# Altium schematic symbol library Sensor_Current.SchLib: 261 symbols (part 3 of 3)
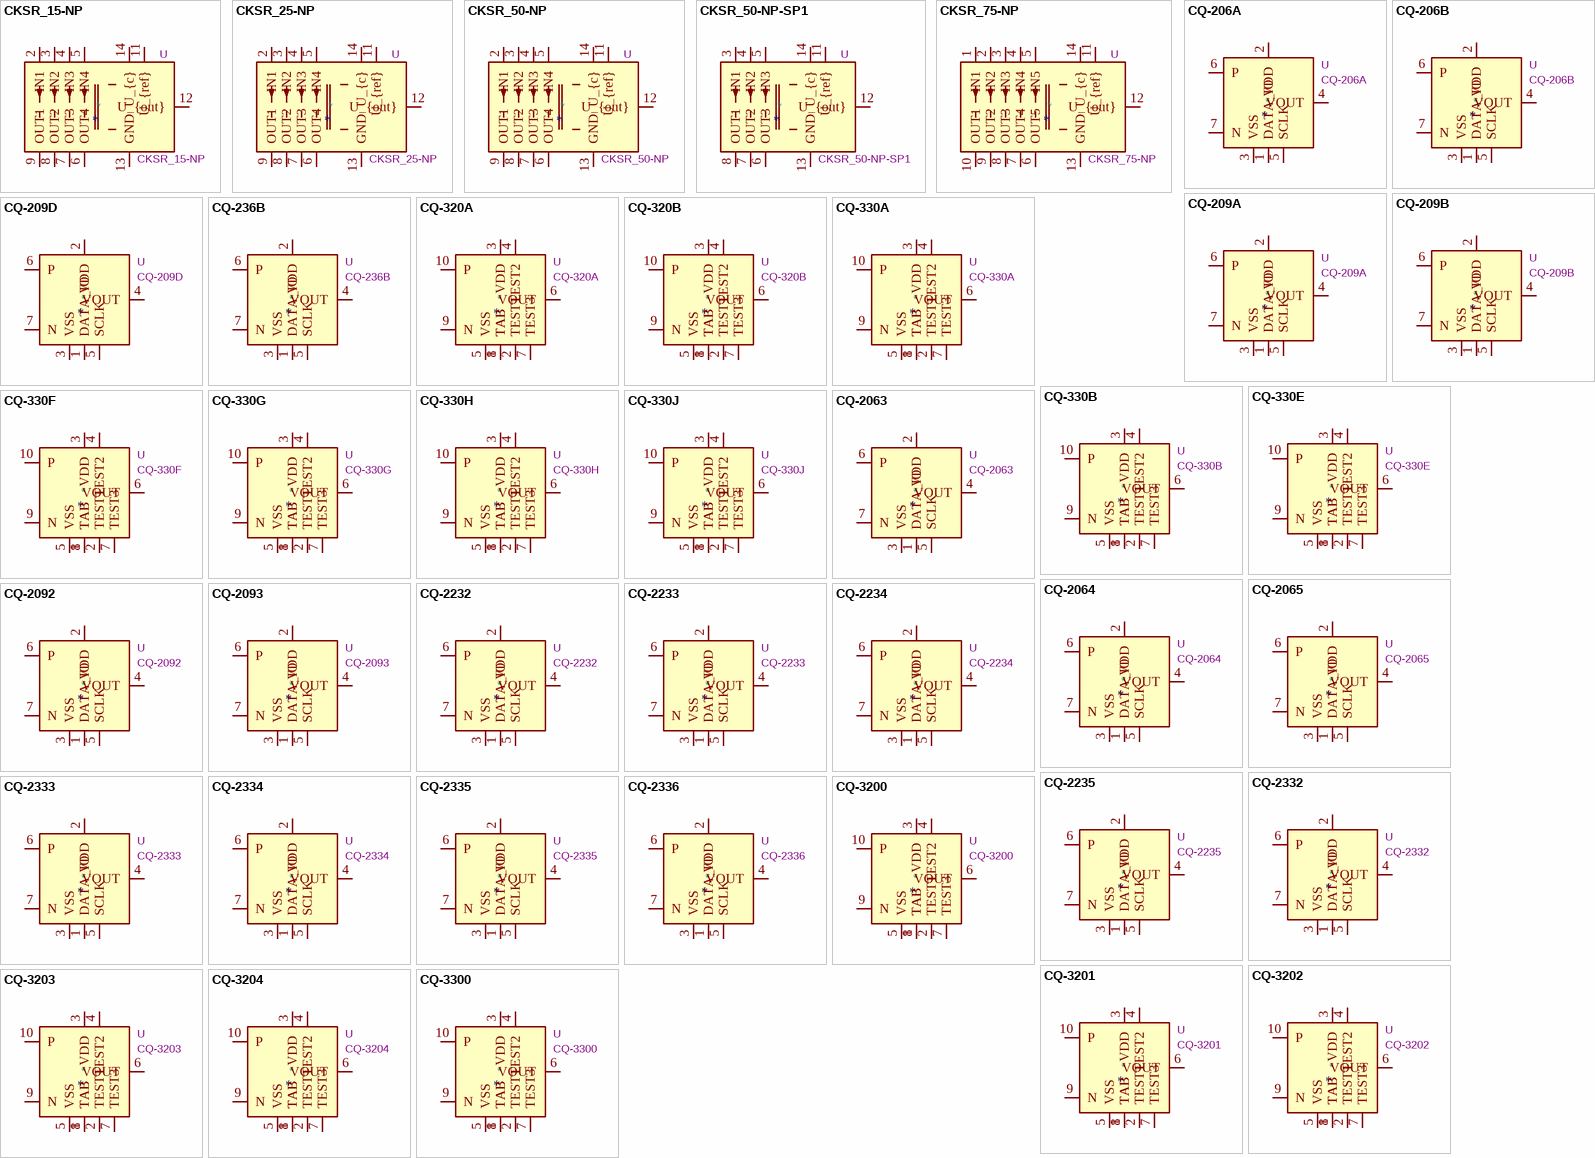
[diagram p8: symbols CKSR_15-NP to CQ-3300]

## CQ-330H
designator *  value CQ-330H  Reference: U
High-Speed Response Coreless Current Sensor, Bidirectional, -42.0A to +42.0A, 50mV/A, VSOP-24; ki_keywords: hall effect current sensor; ki_fp_filters: AKM*CQ*VSOP*5.6x7.9mm*P0.65mm*; Footprint: Sensor_Current:AKM_CQ_VSOP-24_5.6x7.9mm_P0.65mm; Datasheet: http://www.akm.com/akm/en/file/datasheet/CQ-330H.pdf; Description_: High-Speed Response Coreless Current Sensor, Bidirectional, -42.0A to +42.0A, 50mV/A, VSOP-24
pins: 1 TAB, 2 TEST1, 3 VDD, 4 TEST2, 5 VSS, 6 VOUT, 7 TEST3, 8 TAB, 9 N, 10 P

## CQ-330J
designator *  value CQ-330J  Reference: U
High-Speed Response Coreless Current Sensor, Unidirectional, -2.0A to +42.0A, 82.7mV/A, VSOP-24; ki_keywords: hall effect current sensor; ki_fp_filters: AKM*CQ*VSOP*5.6x7.9mm*P0.65mm*; Footprint: Sensor_Current:AKM_CQ_VSOP-24_5.6x7.9mm_P0.65mm; Datasheet: http://www.akm.com/akm/en/file/datasheet/CQ-330J.pdf; Description_: High-Speed Response Coreless Current Sensor, Unidirectional, -2.0A to +42.0A, 82.7mV/A, VSOP-24
pins: 1 TAB, 2 TEST1, 3 VDD, 4 TEST2, 5 VSS, 6 VOUT, 7 TEST3, 8 TAB, 9 N, 10 P

## CQ-2063
designator *  value CQ-2063  Reference: U
High-Speed Small-Sized Current Sensor, Bidirectional, -35A to +35A, 60mV/A, CQ-7; ki_keywords: hall effect current sensor; ki_fp_filters: AKM*CQ*; Footprint: Sensor_Current:AKM_CQ_7; Datasheet: http://www.akm.com/akm/en/file/datasheet/CQ-2063.pdf; Description_: High-Speed Small-Sized Current Sensor, Bidirectional, -35A to +35A, 60mV/A, CQ-7
pins: 1 DATA_IO, 2 VDD, 3 VSS, 4 VOUT, 5 SCLK, 6 P, 7 N

## CQ-2064
designator *  value CQ-2064  Reference: U
High-Speed Small-Sized Current Sensor, Bidirectional, -54A to +54A, 40mV/A, CQ-7; ki_keywords: hall effect current sensor; ki_fp_filters: AKM*CQ*; Footprint: Sensor_Current:AKM_CQ_7; Datasheet: http://www.akm.com/akm/en/file/datasheet/CQ-2064.pdf; Description_: High-Speed Small-Sized Current Sensor, Bidirectional, -54A to +54A, 40mV/A, CQ-7
pins: 1 DATA_IO, 2 VDD, 3 VSS, 4 VOUT, 5 SCLK, 6 P, 7 N

## CQ-2065
designator *  value CQ-2065  Reference: U
High-Speed Small-Sized Current Sensor, Bidirectional, -85A to +85A, 25mV/A, CQ-7; ki_keywords: hall effect current sensor; ki_fp_filters: AKM*CQ*; Footprint: Sensor_Current:AKM_CQ_7; Datasheet: http://www.akm.com/akm/en/file/datasheet/CQ-2065.pdf; Description_: High-Speed Small-Sized Current Sensor, Bidirectional, -85A to +85A, 25mV/A, CQ-7
pins: 1 DATA_IO, 2 VDD, 3 VSS, 4 VOUT, 5 SCLK, 6 P, 7 N

## CQ-2092
designator *  value CQ-2092  Reference: U
High-Speed Small-Sized Current Sensor, Bidirectional, -21A to +21A, 100mV/A, CQ-7S; ki_keywords: hall effect current sensor; ki_fp_filters: AKM*CQ*S*; Footprint: Sensor_Current:AKM_CQ_7S; Datasheet: http://www.akm.com/akm/en/file/datasheet/CQ-2092.pdf; Description_: High-Speed Small-Sized Current Sensor, Bidirectional, -21A to +21A, 100mV/A, CQ-7S
pins: 1 DATA_IO, 2 VDD, 3 VSS, 4 VOUT, 5 SCLK, 6 P, 7 N

## CQ-2093
designator *  value CQ-2093  Reference: U
High-Speed Small-Sized Current Sensor, Bidirectional, -35A to +35A, 60mV/A, CQ-7S; ki_keywords: hall effect current sensor; ki_fp_filters: AKM*CQ*S*; Footprint: Sensor_Current:AKM_CQ_7S; Datasheet: http://www.akm.com/akm/en/file/datasheet/CQ-2093.pdf; Description_: High-Speed Small-Sized Current Sensor, Bidirectional, -35A to +35A, 60mV/A, CQ-7S
pins: 1 DATA_IO, 2 VDD, 3 VSS, 4 VOUT, 5 SCLK, 6 P, 7 N

## CQ-2232
designator *  value CQ-2232  Reference: U
High-Speed Small Current Sensor, Bidirectional, -21A to +21A, 62.5mV/A, CQ-7; ki_keywords: hall effect current sensor; ki_fp_filters: AKM*CQ*; Footprint: Sensor_Current:AKM_CQ_7; Datasheet: http://www.akm.com/akm/en/file/datasheet/CQ-2232.pdf; Description_: High-Speed Small Current Sensor, Bidirectional, -21A to +21A, 62.5mV/A, CQ-7
pins: 1 DATA_IO, 2 VDD, 3 VSS, 4 VOUT, 5 SCLK, 6 P, 7 N

## CQ-2233
designator *  value CQ-2233  Reference: U
High-Speed Small Current Sensor, Bidirectional, -35A to +35A, 37.5mV/A, CQ-7; ki_keywords: hall effect current sensor; ki_fp_filters: AKM*CQ*; Footprint: Sensor_Current:AKM_CQ_7; Datasheet: http://www.akm.com/akm/en/file/datasheet/CQ-2233.pdf; Description_: High-Speed Small Current Sensor, Bidirectional, -35A to +35A, 37.5mV/A, CQ-7
pins: 1 DATA_IO, 2 VDD, 3 VSS, 4 VOUT, 5 SCLK, 6 P, 7 N

## CQ-2234
designator *  value CQ-2234  Reference: U
High-Speed Small Current Sensor, Bidirectional, -54A to +54A, 24.5mV/A, CQ-7; ki_keywords: hall effect current sensor; ki_fp_filters: AKM*CQ*; Footprint: Sensor_Current:AKM_CQ_7; Datasheet: http://www.akm.com/akm/en/file/datasheet/CQ-2234.pdf; Description_: High-Speed Small Current Sensor, Bidirectional, -54A to +54A, 24.5mV/A, CQ-7
pins: 1 DATA_IO, 2 VDD, 3 VSS, 4 VOUT, 5 SCLK, 6 P, 7 N

## CQ-2235
designator *  value CQ-2235  Reference: U
High-Speed Small Current Sensor, Bidirectional, -85A to +85A, 15.5mV/A, CQ-7; ki_keywords: hall effect current sensor; ki_fp_filters: AKM*CQ*; Footprint: Sensor_Current:AKM_CQ_7; Datasheet: http://www.akm.com/akm/en/file/datasheet/CQ-2235.pdf; Description_: High-Speed Small Current Sensor, Bidirectional, -85A to +85A, 15.5mV/A, CQ-7
pins: 1 DATA_IO, 2 VDD, 3 VSS, 4 VOUT, 5 SCLK, 6 P, 7 N

## CQ-2332
designator *  value CQ-2332  Reference: U
High-Speed Small Current Sensor, Bidirectional, -21A to +21A, 100mV/A, CQ-7; ki_keywords: hall effect current sensor; ki_fp_filters: AKM*CQ*; Footprint: Sensor_Current:AKM_CQ_7; Datasheet: http://www.akm.com/akm/en/file/datasheet/CQ-2332.pdf; Description_: High-Speed Small Current Sensor, Bidirectional, -21A to +21A, 100mV/A, CQ-7
pins: 1 DATA_IO, 2 VDD, 3 VSS, 4 VOUT, 5 SCLK, 6 P, 7 N

## CQ-2333
designator *  value CQ-2333  Reference: U
High-Speed Small Current Sensor, Bidirectional, -35A to +35A, 60mV/A, CQ-7; ki_keywords: hall effect current sensor; ki_fp_filters: AKM*CQ*; Footprint: Sensor_Current:AKM_CQ_7; Datasheet: http://www.akm.com/akm/en/file/datasheet/CQ-2333.pdf; Description_: High-Speed Small Current Sensor, Bidirectional, -35A to +35A, 60mV/A, CQ-7
pins: 1 DATA_IO, 2 VDD, 3 VSS, 4 VOUT, 5 SCLK, 6 P, 7 N

## CQ-2334
designator *  value CQ-2334  Reference: U
High-Speed Small Current Sensor, Bidirectional, -54A to +54A, 40mV/A, CQ-7; ki_keywords: hall effect current sensor; ki_fp_filters: AKM*CQ*; Footprint: Sensor_Current:AKM_CQ_7; Datasheet: http://www.akm.com/akm/en/file/datasheet/CQ-2334.pdf; Description_: High-Speed Small Current Sensor, Bidirectional, -54A to +54A, 40mV/A, CQ-7
pins: 1 DATA_IO, 2 VDD, 3 VSS, 4 VOUT, 5 SCLK, 6 P, 7 N

## CQ-2335
designator *  value CQ-2335  Reference: U
High-Speed Small Current Sensor, Bidirectional, -85A to +85A, 25mV/A, CQ-7; ki_keywords: hall effect current sensor; ki_fp_filters: AKM*CQ*; Footprint: Sensor_Current:AKM_CQ_7; Datasheet: http://www.akm.com/akm/en/file/datasheet/CQ-2335.pdf; Description_: High-Speed Small Current Sensor, Bidirectional, -85A to +85A, 25mV/A, CQ-7
pins: 1 DATA_IO, 2 VDD, 3 VSS, 4 VOUT, 5 SCLK, 6 P, 7 N

## CQ-2336
designator *  value CQ-2336  Reference: U
High-Speed Small Current Sensor, Bidirectional, -170A to +170A, 12mV/A, CQ-7; ki_keywords: hall effect current sensor; ki_fp_filters: AKM*CQ*; Footprint: Sensor_Current:AKM_CQ_7; Datasheet: http://www.akm.com/akm/en/file/datasheet/CQ-2335.pdf; Description_: High-Speed Small Current Sensor, Bidirectional, -170A to +170A, 12mV/A, CQ-7
pins: 1 DATA_IO, 2 VDD, 3 VSS, 4 VOUT, 5 SCLK, 6 P, 7 N

## CQ-3200
designator *  value CQ-3200  Reference: U
High-Speed Response Coreless Current Sensor, Bidirectional, -8.5A to +8.5A, 155mV/A, VSOP-24; ki_keywords: hall effect current sensor; ki_fp_filters: AKM*CQ*VSOP*5.6x7.9mm*P0.65mm*; Footprint: Sensor_Current:AKM_CQ_VSOP-24_5.6x7.9mm_P0.65mm; Datasheet: http://www.akm.com/akm/en/file/datasheet/CQ-3200.pdf; Description_: High-Speed Response Coreless Current Sensor, Bidirectional, -8.5A to +8.5A, 155mV/A, VSOP-24
pins: 1 TAB, 2 TEST1, 3 VDD, 4 TEST2, 5 VSS, 6 VOUT, 7 TEST3, 8 TAB, 9 N, 10 P

## CQ-3201
designator *  value CQ-3201  Reference: U
High-Speed Response Coreless Current Sensor, Bidirectional, -10.1A to +10.1A, 130mV/A, VSOP-24; ki_keywords: hall effect current sensor; ki_fp_filters: AKM*CQ*VSOP*5.6x7.9mm*P0.65mm*; Footprint: Sensor_Current:AKM_CQ_VSOP-24_5.6x7.9mm_P0.65mm; Datasheet: http://www.akm.com/akm/en/file/datasheet/CQ-3201.pdf; Description_: High-Speed Response Coreless Current Sensor, Bidirectional, -10.1A to +10.1A, 130mV/A, VSOP-24
pins: 1 TAB, 2 TEST1, 3 VDD, 4 TEST2, 5 VSS, 6 VOUT, 7 TEST3, 8 TAB, 9 N, 10 P

## CQ-3202
designator *  value CQ-3202  Reference: U
High-Speed Response Coreless Current Sensor, Bidirectional, -21.1A to +21.1A, 62.5mV/A, VSOP-24; ki_keywords: hall effect current sensor; ki_fp_filters: AKM*CQ*VSOP*5.6x7.9mm*P0.65mm*; Footprint: Sensor_Current:AKM_CQ_VSOP-24_5.6x7.9mm_P0.65mm; Datasheet: http://www.akm.com/akm/en/file/datasheet/CQ-3202.pdf; Description_: High-Speed Response Coreless Current Sensor, Bidirectional, -21.1A to +21.1A, 62.5mV/A, VSOP-24
pins: 1 TAB, 2 TEST1, 3 VDD, 4 TEST2, 5 VSS, 6 VOUT, 7 TEST3, 8 TAB, 9 N, 10 P

## CQ-3203
designator *  value CQ-3203  Reference: U
High-Speed Response Coreless Current Sensor, Bidirectional, -35.7A to +35.7A, 37mV/A, VSOP-24; ki_keywords: hall effect current sensor; ki_fp_filters: AKM*CQ*VSOP*5.6x7.9mm*P0.65mm*; Footprint: Sensor_Current:AKM_CQ_VSOP-24_5.6x7.9mm_P0.65mm; Datasheet: http://www.akm.com/akm/en/file/datasheet/CQ-3203.pdf; Description_: High-Speed Response Coreless Current Sensor, Bidirectional, -35.7A to +35.7A, 37mV/A, VSOP-24
pins: 1 TAB, 2 TEST1, 3 VDD, 4 TEST2, 5 VSS, 6 VOUT, 7 TEST3, 8 TAB, 9 N, 10 P

## CQ-3204
designator *  value CQ-3204  Reference: U
High-Speed Response Coreless Current Sensor, Bidirectional, -44.0A to +44.0A, 30mV/A, VSOP-24; ki_keywords: hall effect current sensor; ki_fp_filters: AKM*CQ*VSOP*5.6x7.9mm*P0.65mm*; Footprint: Sensor_Current:AKM_CQ_VSOP-24_5.6x7.9mm_P0.65mm; Datasheet: http://www.akm.com/akm/en/file/datasheet/CQ-3204.pdf; Description_: High-Speed Response Coreless Current Sensor, Bidirectional, -44.0A to +44.0A, 30mV/A, VSOP-24
pins: 1 TAB, 2 TEST1, 3 VDD, 4 TEST2, 5 VSS, 6 VOUT, 7 TEST3, 8 TAB, 9 N, 10 P

## CQ-3300
designator *  value CQ-3300  Reference: U
High-Speed Response Coreless Current Sensor, Bidirectional, -6.4A to +6.4A, 325mV/A, VSOP-24; ki_keywords: hall effect current sensor; ki_fp_filters: AKM*CQ*VSOP*5.6x7.9mm*P0.65mm*; Footprint: Sensor_Current:AKM_CQ_VSOP-24_5.6x7.9mm_P0.65mm; Datasheet: http://www.akm.com/akm/en/file/datasheet/CQ-3300.pdf; Description_: High-Speed Response Coreless Current Sensor, Bidirectional, -6.4A to +6.4A, 325mV/A, VSOP-24
pins: 1 TAB, 2 TEST1, 3 VDD, 4 TEST2, 5 VSS, 6 VOUT, 7 TEST3, 8 TAB, 9 N, 10 P

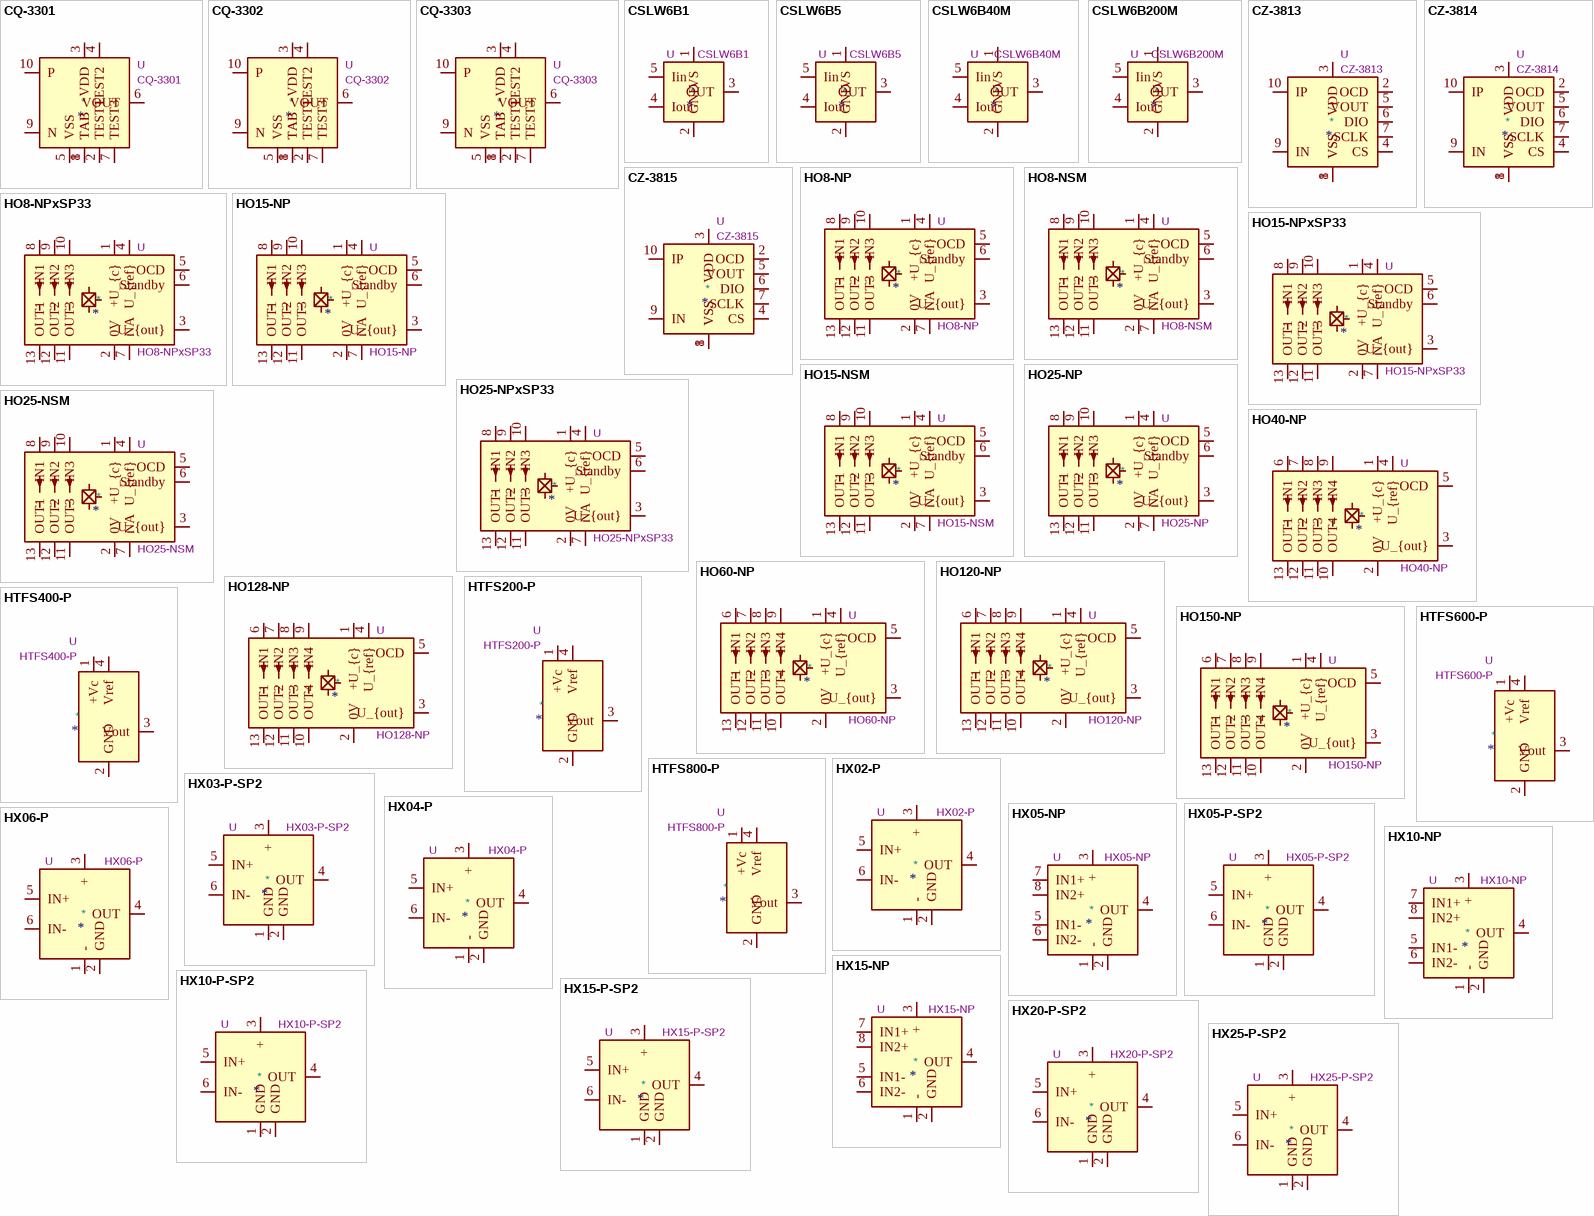
[diagram p5: symbols CQ-3301 to HX25-P-SP2]

## CQ-3301
designator *  value CQ-3301  Reference: U
High-Speed Response Coreless Current Sensor, Bidirectional, -10.7A to +10.7A, 195mV/A, VSOP-24; ki_keywords: hall effect current sensor; ki_fp_filters: AKM*CQ*VSOP*5.6x7.9mm*P0.65mm*; Footprint: Sensor_Current:AKM_CQ_VSOP-24_5.6x7.9mm_P0.65mm; Datasheet: http://www.akm.com/akm/en/file/datasheet/CQ-3301.pdf; Description_: High-Speed Response Coreless Current Sensor, Bidirectional, -10.7A to +10.7A, 195mV/A, VSOP-24
pins: 1 TAB, 2 TEST1, 3 VDD, 4 TEST2, 5 VSS, 6 VOUT, 7 TEST3, 8 TAB, 9 N, 10 P

## CQ-3302
designator *  value CQ-3302  Reference: U
High-Speed Response Coreless Current Sensor, Bidirectional, -21.0A to +21.0A, 100mV/A, VSOP-24; ki_keywords: hall effect current sensor; ki_fp_filters: AKM*CQ*VSOP*5.6x7.9mm*P0.65mm*; Footprint: Sensor_Current:AKM_CQ_VSOP-24_5.6x7.9mm_P0.65mm; Datasheet: http://www.akm.com/akm/en/file/datasheet/CQ-3302.pdf; Description_: High-Speed Response Coreless Current Sensor, Bidirectional, -21.0A to +21.0A, 100mV/A, VSOP-24
pins: 1 TAB, 2 TEST1, 3 VDD, 4 TEST2, 5 VSS, 6 VOUT, 7 TEST3, 8 TAB, 9 N, 10 P

## CQ-3303
designator *  value CQ-3303  Reference: U
High-Speed Response Coreless Current Sensor, Bidirectional, -35.0A to +35.0A, 60mV/A, VSOP-24; ki_keywords: hall effect current sensor; ki_fp_filters: AKM*CQ*VSOP*5.6x7.9mm*P0.65mm*; Footprint: Sensor_Current:AKM_CQ_VSOP-24_5.6x7.9mm_P0.65mm; Datasheet: http://www.akm.com/akm/en/file/datasheet/CQ-3303.pdf; Description_: High-Speed Response Coreless Current Sensor, Bidirectional, -35.0A to +35.0A, 60mV/A, VSOP-24
pins: 1 TAB, 2 TEST1, 3 VDD, 4 TEST2, 5 VSS, 6 VOUT, 7 TEST3, 8 TAB, 9 N, 10 P

## CSLW6B1
designator *  value CSLW6B1  Reference: U
Miniature Wired Open-Loop Current Sensors, 1A; ki_keywords: hall current sensor; ki_fp_filters: Honeywell*CSLW*; Footprint: Sensor_Current:Honeywell_CSLW; Datasheet: https://sensing.honeywell.com/honeywell-sensing-cslw-series-product-sheet-005861-1-en.pdf; Description_: Miniature Wired Open-Loop Current Sensors, 1A
pins: 1 VS, 2 GND, 3 OUT, 4 Iout, 5 Iin

## CSLW6B5
designator *  value CSLW6B5  Reference: U
Miniature Wired Open-Loop Current Sensors, 5A; ki_keywords: hall current sensor; ki_fp_filters: Honeywell*CSLW*; Footprint: Sensor_Current:Honeywell_CSLW; Datasheet: https://sensing.honeywell.com/honeywell-sensing-cslw-series-product-sheet-005861-1-en.pdf; Description_: Miniature Wired Open-Loop Current Sensors, 5A
pins: 1 VS, 2 GND, 3 OUT, 4 Iout, 5 Iin

## CSLW6B40M
designator *  value CSLW6B40M  Reference: U
Miniature Wired Open-Loop Current Sensors, 40mA; ki_keywords: hall current sensor; ki_fp_filters: Honeywell*CSLW*; Footprint: Sensor_Current:Honeywell_CSLW; Datasheet: https://sensing.honeywell.com/honeywell-sensing-cslw-series-product-sheet-005861-1-en.pdf; Description_: Miniature Wired Open-Loop Current Sensors, 40mA
pins: 1 VS, 2 GND, 3 OUT, 4 Iout, 5 Iin

## CSLW6B200M
designator *  value CSLW6B200M  Reference: U
Miniature Wired Open-Loop Current Sensors, 200mA; ki_keywords: hall current sensor; ki_fp_filters: Honeywell*CSLW*; Footprint: Sensor_Current:Honeywell_CSLW; Datasheet: https://sensing.honeywell.com/honeywell-sensing-cslw-series-product-sheet-005861-1-en.pdf; Description_: Miniature Wired Open-Loop Current Sensors, 200mA
pins: 1 VS, 2 GND, 3 OUT, 4 Iout, 5 Iin

## CZ-3813
designator *  value CZ-3813  Reference: U
Coreless Current Sensor, Bidirectional, -33.0A to +33.0A, 60mV/A, VSOP-24; ki_keywords: hall effect current sensor; ki_fp_filters: AKM*CZ*SSOP*6.5x8.1mm*P0.95mm*; Footprint: Sensor_Current:AKM_CZ_SSOP-10_6.5x8.1mm_P0.95mm; Datasheet: http://www.akm.com/akm/en/file/datasheet/CZ-3813.pdf; Description_: Coreless Current Sensor, Bidirectional, -33.0A to +33.0A, 60mV/A, VSOP-24
pins: 1 VSS, 2 OCD, 3 VDD, 4 CS, 5 VOUT, 6 DIO, 7 SCLK, 8 VSS, 9 IN, 10 IP

## CZ-3814
designator *  value CZ-3814  Reference: U
Coreless Current Sensor, Bidirectional, -50.0A to +50.0A, 40mV/A, VSOP-24; ki_keywords: hall effect current sensor; ki_fp_filters: AKM*CZ*SSOP*6.5x8.1mm*P0.95mm*; Footprint: Sensor_Current:AKM_CZ_SSOP-10_6.5x8.1mm_P0.95mm; Datasheet: http://www.akm.com/akm/en/file/datasheet/CZ-3814.pdf; Description_: Coreless Current Sensor, Bidirectional, -50.0A to +50.0A, 40mV/A, VSOP-24
pins: 1 VSS, 2 OCD, 3 VDD, 4 CS, 5 VOUT, 6 DIO, 7 SCLK, 8 VSS, 9 IN, 10 IP

## CZ-3815
designator *  value CZ-3815  Reference: U
Coreless Current Sensor, Bidirectional, -60.0A to +60.0A, 33mV/A, VSOP-24; ki_keywords: hall effect current sensor; ki_fp_filters: AKM*CZ*SSOP*6.5x8.1mm*P0.95mm*; Footprint: Sensor_Current:AKM_CZ_SSOP-10_6.5x8.1mm_P0.95mm; Datasheet: http://www.akm.com/akm/en/file/datasheet/CZ-3815.pdf; Description_: Coreless Current Sensor, Bidirectional, -60.0A to +60.0A, 33mV/A, VSOP-24
pins: 1 VSS, 2 OCD, 3 VDD, 4 CS, 5 VOUT, 6 DIO, 7 SCLK, 8 VSS, 9 IN, 10 IP

## HO8-NP
designator *  value HO8-NP  Reference: U
Hall Effect Current Transducer, 8A, Unipolar, 5V, THT; ki_keywords: Lem; ki_fp_filters: LEM*HO8*NP*; Footprint: Sensor_Current:LEM_HO8-NP; Datasheet: https://www.lem.com/sites/default/files/products_datasheets/ho-np-0000_series.pdf; Description_: Hall Effect Current Transducer, 8A, Unipolar, 5V, THT
pins: 1 +U_{c}, 2 0V, 3 U_{out}, 4 U_{ref}, 5 OCD, 6 Standby, 7 NA, 8 IN1, 9 IN2, 10 IN3, 11 OUT3, 12 OUT2, 13 OUT1

## HO8-NPxSP33
designator *  value HO8-NPxSP33  Reference: U
Hall Effect Current Transducer, 8A, Unipolar, 3.3V, THT; ki_keywords: Lem; ki_fp_filters: LEM*HO8*NP*; Footprint: Sensor_Current:LEM_HO8-NP; Datasheet: https://www.lem.com/sites/default/files/products_datasheets/ho-np_sp33-1000_series.pdf; Description_: Hall Effect Current Transducer, 8A, Unipolar, 3.3V, THT
pins: 1 +U_{c}, 2 0V, 3 U_{out}, 4 U_{ref}, 5 OCD, 6 Standby, 7 NA, 8 IN1, 9 IN2, 10 IN3, 11 OUT3, 12 OUT2, 13 OUT1

## HO8-NSM
designator *  value HO8-NSM  Reference: U
Hall Effect Current Transducer, 8A, Unipolar, 5V, SMT; ki_keywords: Lem; ki_fp_filters: LEM*HO8*NSM*; Footprint: Sensor_Current:LEM_HO8-NSM; Datasheet: https://www.lem.com/sites/default/files/products_datasheets/ho-nsm-0000_series.pdf; Description_: Hall Effect Current Transducer, 8A, Unipolar, 5V, SMT
pins: 1 +U_{c}, 2 0V, 3 U_{out}, 4 U_{ref}, 5 OCD, 6 Standby, 7 NA, 8 IN1, 9 IN2, 10 IN3, 11 OUT3, 12 OUT2, 13 OUT1

## HO15-NP
designator *  value HO15-NP  Reference: U
Hall Effect Current Transducer, 15A, Unipolar, 5V, THT; ki_keywords: Lem; ki_fp_filters: LEM*HO8*NP*; Footprint: Sensor_Current:LEM_HO8-NP; Datasheet: https://www.lem.com/sites/default/files/products_datasheets/ho-np-0000_series.pdf; Description_: Hall Effect Current Transducer, 15A, Unipolar, 5V, THT
pins: 1 +U_{c}, 2 0V, 3 U_{out}, 4 U_{ref}, 5 OCD, 6 Standby, 7 NA, 8 IN1, 9 IN2, 10 IN3, 11 OUT3, 12 OUT2, 13 OUT1

## HO15-NPxSP33
designator *  value HO15-NPxSP33  Reference: U
Hall Effect Current Transducer, 15A, Unipolar, 3.3V, THT; ki_keywords: Lem; ki_fp_filters: LEM*HO8*NP*; Footprint: Sensor_Current:LEM_HO8-NP; Datasheet: https://www.lem.com/sites/default/files/products_datasheets/ho-np_sp33-1000_series.pdf; Description_: Hall Effect Current Transducer, 15A, Unipolar, 3.3V, THT
pins: 1 +U_{c}, 2 0V, 3 U_{out}, 4 U_{ref}, 5 OCD, 6 Standby, 7 NA, 8 IN1, 9 IN2, 10 IN3, 11 OUT3, 12 OUT2, 13 OUT1

## HO15-NSM
designator *  value HO15-NSM  Reference: U
Hall Effect Current Transducer, 15A, Unipolar, 5V, SMT; ki_keywords: Lem; ki_fp_filters: LEM*HO8*NSM*; Footprint: Sensor_Current:LEM_HO8-NSM; Datasheet: https://www.lem.com/sites/default/files/products_datasheets/ho-nsm-0000_series.pdf; Description_: Hall Effect Current Transducer, 15A, Unipolar, 5V, SMT
pins: 1 +U_{c}, 2 0V, 3 U_{out}, 4 U_{ref}, 5 OCD, 6 Standby, 7 NA, 8 IN1, 9 IN2, 10 IN3, 11 OUT3, 12 OUT2, 13 OUT1

## HO25-NP
designator *  value HO25-NP  Reference: U
Hall Effect Current Transducer, 25A, Unipolar, 5V, THT; ki_keywords: Lem; ki_fp_filters: LEM*HO8*NP*; Footprint: Sensor_Current:LEM_HO8-NP; Datasheet: https://www.lem.com/sites/default/files/products_datasheets/ho-np-0000_series.pdf; Description_: Hall Effect Current Transducer, 25A, Unipolar, 5V, THT
pins: 1 +U_{c}, 2 0V, 3 U_{out}, 4 U_{ref}, 5 OCD, 6 Standby, 7 NA, 8 IN1, 9 IN2, 10 IN3, 11 OUT3, 12 OUT2, 13 OUT1

## HO25-NPxSP33
designator *  value HO25-NPxSP33  Reference: U
Hall Effect Current Transducer, 25A, Unipolar, 3.3V, THT; ki_keywords: Lem; ki_fp_filters: LEM*HO8*NP*; Footprint: Sensor_Current:LEM_HO8-NP; Datasheet: https://www.lem.com/sites/default/files/products_datasheets/ho-np_sp33-1000_series.pdf; Description_: Hall Effect Current Transducer, 25A, Unipolar, 3.3V, THT
pins: 1 +U_{c}, 2 0V, 3 U_{out}, 4 U_{ref}, 5 OCD, 6 Standby, 7 NA, 8 IN1, 9 IN2, 10 IN3, 11 OUT3, 12 OUT2, 13 OUT1

## HO25-NSM
designator *  value HO25-NSM  Reference: U
Hall Effect Current Transducer, 25A, Unipolar, 5V, SMT; ki_keywords: Lem; ki_fp_filters: LEM*HO8*NSM*; Footprint: Sensor_Current:LEM_HO8-NSM; Datasheet: https://www.lem.com/sites/default/files/products_datasheets/ho-nsm-0000_series.pdf; Description_: Hall Effect Current Transducer, 25A, Unipolar, 5V, SMT
pins: 1 +U_{c}, 2 0V, 3 U_{out}, 4 U_{ref}, 5 OCD, 6 Standby, 7 NA, 8 IN1, 9 IN2, 10 IN3, 11 OUT3, 12 OUT2, 13 OUT1

## HO40-NP
designator *  value HO40-NP  Reference: U
Hall Effect Current Transducer, 40A, Unipolar, 5V, THT; ki_keywords: Lem; ki_fp_filters: LEM*HO40*NP*; Footprint: Sensor_Current:LEM_HO40-NP; Datasheet: https://www.lem.com/sites/default/files/products_datasheets/ho-np_series.pdf; Description_: Hall Effect Current Transducer, 40A, Unipolar, 5V, THT
pins: 1 +U_{c}, 2 0V, 3 U_{out}, 4 U_{ref}, 5 OCD, 6 IN1, 7 IN2, 8 IN3, 9 IN4, 10 OUT4, 11 OUT3, 12 OUT2, 13 OUT1

## HO60-NP
designator *  value HO60-NP  Reference: U
Hall Effect Current Transducer, 60A, Unipolar, 5V, THT; ki_keywords: Lem; ki_fp_filters: LEM*HO40*NP*; Footprint: Sensor_Current:LEM_HO40-NP; Datasheet: https://www.lem.com/sites/default/files/products_datasheets/ho-np_series.pdf; Description_: Hall Effect Current Transducer, 60A, Unipolar, 5V, THT
pins: 1 +U_{c}, 2 0V, 3 U_{out}, 4 U_{ref}, 5 OCD, 6 IN1, 7 IN2, 8 IN3, 9 IN4, 10 OUT4, 11 OUT3, 12 OUT2, 13 OUT1

## HO120-NP
designator *  value HO120-NP  Reference: U
Hall Effect Current Transducer, 120A, Unipolar, 5V, THT; ki_keywords: Lem; ki_fp_filters: LEM*HO40*NP*; Footprint: Sensor_Current:LEM_HO40-NP; Datasheet: https://www.lem.com/sites/default/files/products_datasheets/ho-np_series.pdf; Description_: Hall Effect Current Transducer, 120A, Unipolar, 5V, THT
pins: 1 +U_{c}, 2 0V, 3 U_{out}, 4 U_{ref}, 5 OCD, 6 IN1, 7 IN2, 8 IN3, 9 IN4, 10 OUT4, 11 OUT3, 12 OUT2, 13 OUT1

## HO128-NP
designator *  value HO128-NP  Reference: U
Hall Effect Current Transducer, 128A, Unipolar, 5V, THT; ki_keywords: Lem; ki_fp_filters: LEM*HO40*NP*; Footprint: Sensor_Current:LEM_HO40-NP; Datasheet: https://www.lem.com/sites/default/files/products_datasheets/ho-np_series.pdf; Description_: Hall Effect Current Transducer, 128A, Unipolar, 5V, THT
pins: 1 +U_{c}, 2 0V, 3 U_{out}, 4 U_{ref}, 5 OCD, 6 IN1, 7 IN2, 8 IN3, 9 IN4, 10 OUT4, 11 OUT3, 12 OUT2, 13 OUT1

## HO150-NP
designator *  value HO150-NP  Reference: U
Hall Effect Current Transducer, 150A, Unipolar, 5V, THT; ki_keywords: Lem; ki_fp_filters: LEM*HO40*NP*; Footprint: Sensor_Current:LEM_HO40-NP; Datasheet: https://www.lem.com/sites/default/files/products_datasheets/ho-np_series.pdf; Description_: Hall Effect Current Transducer, 150A, Unipolar, 5V, THT
pins: 1 +U_{c}, 2 0V, 3 U_{out}, 4 U_{ref}, 5 OCD, 6 IN1, 7 IN2, 8 IN3, 9 IN4, 10 OUT4, 11 OUT3, 12 OUT2, 13 OUT1

## HTFS200-P
designator *  value HTFS200-P  Reference: U
Current Transducer, 200A, Unipolar, 5V; ki_fp_filters: LEM*HTFS*; Footprint: Sensor_Current:LEM_HTFS; Datasheet: https://www.lem.com/sites/default/files/products_datasheets/htfs_200_800-p.pdf; Description_: Current Transducer, 200A, Unipolar, 5V; ki_keywords: current transducer
pins: 1 +Vc, 2 GND, 3 Vout, 4 Vref

## HTFS400-P
designator *  value HTFS400-P  Reference: U
Current Transducer, 400A, Unipolar, 5V; ki_fp_filters: LEM*HTFS*; Footprint: Sensor_Current:LEM_HTFS; Datasheet: https://www.lem.com/sites/default/files/products_datasheets/htfs_200_800-p.pdf; Description_: Current Transducer, 400A, Unipolar, 5V; ki_keywords: current transducer
pins: 1 +Vc, 2 GND, 3 Vout, 4 Vref

## HTFS600-P
designator *  value HTFS600-P  Reference: U
Current Transducer, 600A, Unipolar, 5V; ki_fp_filters: LEM*HTFS*; Footprint: Sensor_Current:LEM_HTFS; Datasheet: https://www.lem.com/sites/default/files/products_datasheets/htfs_200_800-p.pdf; Description_: Current Transducer, 600A, Unipolar, 5V; ki_keywords: current transducer
pins: 1 +Vc, 2 GND, 3 Vout, 4 Vref

## HTFS800-P
designator *  value HTFS800-P  Reference: U
Current Transducer, 800A, Unipolar, 5V; ki_fp_filters: LEM*HTFS*; Footprint: Sensor_Current:LEM_HTFS; Datasheet: https://www.lem.com/sites/default/files/products_datasheets/htfs_200_800-p.pdf; Description_: Current Transducer, 800A, Unipolar, 5V; ki_keywords: current transducer
pins: 1 +Vc, 2 GND, 3 Vout, 4 Vref

## HX02-P
designator *  value HX02-P  Reference: U
Current Transducer, 2A, Bipolar, ±15V; ki_fp_filters: LEM*HX02*P*; Footprint: Sensor_Current:LEM_HX02-P; Datasheet: https://www.lem.com/sites/default/files/products_datasheets/hx%202_6-p_e%20v5.pdf; Description_: Current Transducer, 2A, Bipolar, ±15V; ki_keywords: current transducer
pins: 1 -, 2 GND, 3 +, 4 OUT, 5 IN+, 6 IN-

## HX03-P-SP2
designator *  value HX03-P-SP2  Reference: U
Current Transducer, 3A, Unipolar, ±15V; ki_fp_filters: LEM*HX03*P*SP2*; Footprint: Sensor_Current:LEM_HX03-P-SP2; Datasheet: https://www.lem.com/sites/default/files/products_datasheets/hx%203_50-p_sp2_e%20v07.pdf; Description_: Current Transducer, 3A, Unipolar, ±15V; ki_keywords: current transducer
pins: 1 GND, 2 GND, 3 +, 4 OUT, 5 IN+, 6 IN-

## HX04-P
designator *  value HX04-P  Reference: U
Current Transducer, 4A, Bipolar, ±15V; ki_fp_filters: LEM*HX04*P*; Footprint: Sensor_Current:LEM_HX04-P; Datasheet: https://www.lem.com/sites/default/files/products_datasheets/hx%202_6-p_e%20v5.pdf; Description_: Current Transducer, 4A, Bipolar, ±15V; ki_keywords: current transducer
pins: 1 -, 2 GND, 3 +, 4 OUT, 5 IN+, 6 IN-

## HX05-NP
designator *  value HX05-NP  Reference: U
Current Transducer, 5A, Bipolar, ±15V; ki_fp_filters: LEM*HX05*NP*; Footprint: Sensor_Current:LEM_HX05-NP; Datasheet: https://www.lem.com/sites/default/files/products_datasheets/hx%205_15-np_e%20v10.pdf; Description_: Current Transducer, 5A, Bipolar, ±15V; ki_keywords: current transducer
pins: 1 -, 2 GND, 3 +, 4 OUT, 5 IN1-, 6 IN2-, 7 IN1+, 8 IN2+

## HX05-P-SP2
designator *  value HX05-P-SP2  Reference: U
Current Transducer, 5A, Unipolar, ±15V; ki_fp_filters: LEM*HX05*P*SP2*; Footprint: Sensor_Current:LEM_HX05-P-SP2; Datasheet: https://www.lem.com/sites/default/files/products_datasheets/hx%203_50-p_sp2_e%20v07.pdf; Description_: Current Transducer, 5A, Unipolar, ±15V; ki_keywords: current transducer
pins: 1 GND, 2 GND, 3 +, 4 OUT, 5 IN+, 6 IN-

## HX06-P
designator *  value HX06-P  Reference: U
Current Transducer, 6A, Bipolar, ±15V; ki_fp_filters: LEM*HX06*P*; Footprint: Sensor_Current:LEM_HX06-P; Datasheet: https://www.lem.com/sites/default/files/products_datasheets/hx%202_6-p_e%20v5.pdf; Description_: Current Transducer, 6A, Bipolar, ±15V; ki_keywords: current transducer
pins: 1 -, 2 GND, 3 +, 4 OUT, 5 IN+, 6 IN-

## HX10-NP
designator *  value HX10-NP  Reference: U
Current Transducer, 10A, Bipolar, ±15V; ki_fp_filters: LEM*HX10*NP*; Footprint: Sensor_Current:LEM_HX10-NP; Datasheet: https://www.lem.com/sites/default/files/products_datasheets/hx%205_15-np_e%20v10.pdf; Description_: Current Transducer, 10A, Bipolar, ±15V; ki_keywords: current transducer
pins: 1 -, 2 GND, 3 +, 4 OUT, 5 IN1-, 6 IN2-, 7 IN1+, 8 IN2+

## HX10-P-SP2
designator *  value HX10-P-SP2  Reference: U
Current Transducer, 10A, Unipolar, ±15V; ki_fp_filters: LEM*HX10*P*SP2*; Footprint: Sensor_Current:LEM_HX10-P-SP2; Datasheet: https://www.lem.com/sites/default/files/products_datasheets/hx%203_50-p_sp2_e%20v07.pdf; Description_: Current Transducer, 10A, Unipolar, ±15V; ki_keywords: current transducer
pins: 1 GND, 2 GND, 3 +, 4 OUT, 5 IN+, 6 IN-

## HX15-NP
designator *  value HX15-NP  Reference: U
Current Transducer, 15A, Bipolar, ±15V; ki_fp_filters: LEM*HX15*NP*; Footprint: Sensor_Current:LEM_HX15-NP; Datasheet: https://www.lem.com/sites/default/files/products_datasheets/hx%205_15-np_e%20v10.pdf; Description_: Current Transducer, 15A, Bipolar, ±15V; ki_keywords: current transducer
pins: 1 -, 2 GND, 3 +, 4 OUT, 5 IN1-, 6 IN2-, 7 IN1+, 8 IN2+

## HX15-P-SP2
designator *  value HX15-P-SP2  Reference: U
Current Transducer, 15A, Unipolar, ±15V; ki_fp_filters: LEM*HX15*P*SP2*; Footprint: Sensor_Current:LEM_HX15-P-SP2; Datasheet: https://www.lem.com/sites/default/files/products_datasheets/hx%203_50-p_sp2_e%20v07.pdf; Description_: Current Transducer, 15A, Unipolar, ±15V; ki_keywords: current transducer
pins: 1 GND, 2 GND, 3 +, 4 OUT, 5 IN+, 6 IN-

## HX20-P-SP2
designator *  value HX20-P-SP2  Reference: U
Current Transducer, 20A, Unipolar, ±15V; ki_fp_filters: LEM*HX20*P*SP2*; Footprint: Sensor_Current:LEM_HX20-P-SP2; Datasheet: https://www.lem.com/sites/default/files/products_datasheets/hx%203_50-p_sp2_e%20v07.pdf; Description_: Current Transducer, 20A, Unipolar, ±15V; ki_keywords: current transducer
pins: 1 GND, 2 GND, 3 +, 4 OUT, 5 IN+, 6 IN-

## HX25-P-SP2
designator *  value HX25-P-SP2  Reference: U
Current Transducer, 25A, Unipolar, ±15V; ki_fp_filters: LEM*HX25*P*SP2*; Footprint: Sensor_Current:LEM_HX25-P-SP2; Datasheet: https://www.lem.com/sites/default/files/products_datasheets/hx%203_50-p_sp2_e%20v07.pdf; Description_: Current Transducer, 25A, Unipolar, ±15V; ki_keywords: current transducer
pins: 1 GND, 2 GND, 3 +, 4 OUT, 5 IN+, 6 IN-

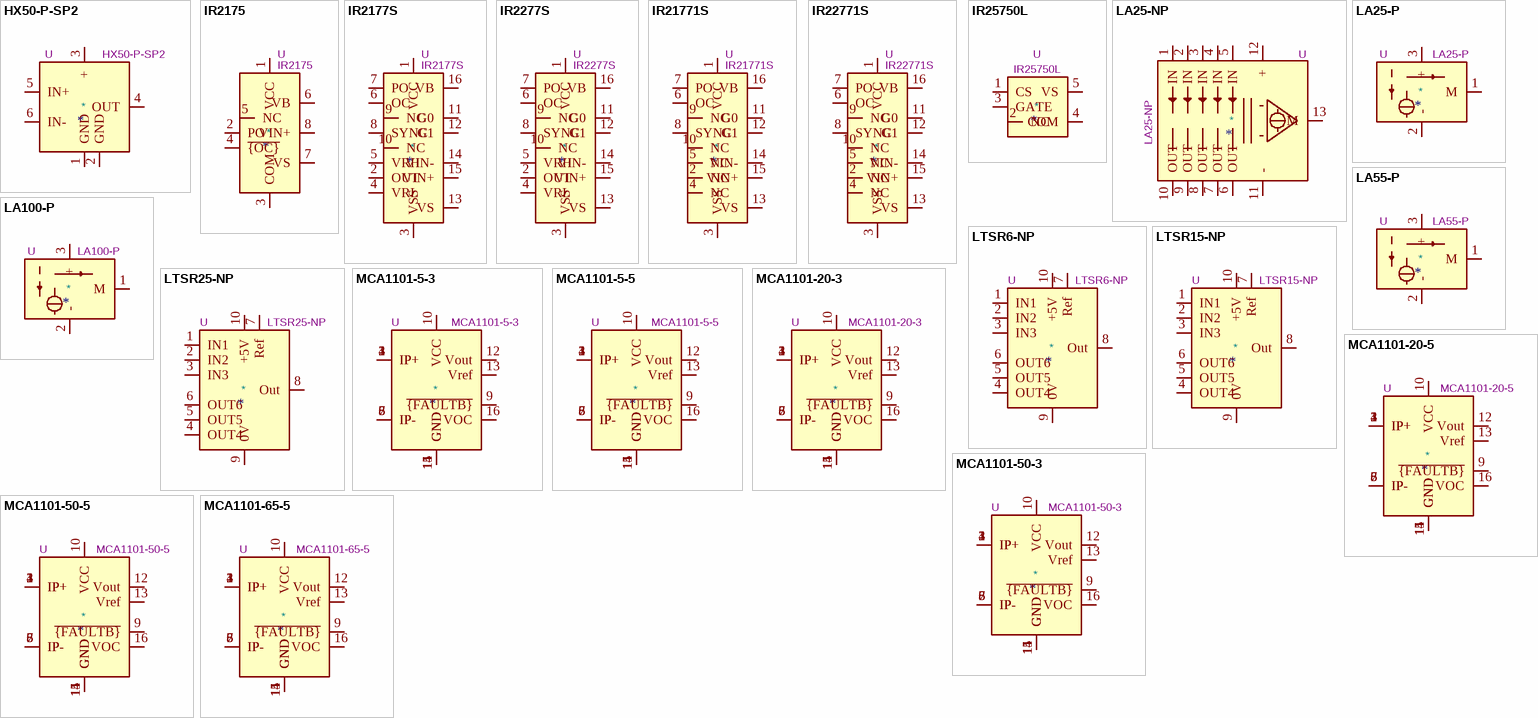
[diagram p6: symbols HX50-P-SP2 to MCA1101-65-5]

## HX50-P-SP2
designator *  value HX50-P-SP2  Reference: U
Current Transducer, 50A, Unipolar, ±15V; ki_fp_filters: LEM*HX50*P*SP2*; Footprint: Sensor_Current:LEM_HX50-P-SP2; Datasheet: https://www.lem.com/sites/default/files/products_datasheets/hx%203_50-p_sp2_e%20v07.pdf; Description_: Current Transducer, 50A, Unipolar, ±15V; ki_keywords: current transducer
pins: 1 GND, 2 GND, 3 +, 4 OUT, 5 IN+, 6 IN-

## IR2175
designator *  value IR2175  Reference: U
Linear Current Sensing IC, PWM output, 600V, PDIP-8/SOIC-8; ki_keywords: half bridge current sense; ki_fp_filters: SOIC*3.9x4.9mm*P1.27mm* DIP*W7.62mm*; Datasheet: https://www.infineon.com/dgdl/ir2175.pdf?fileId=5546d462533600a4015355c9161216c6; Description_: Linear Current Sensing IC, PWM output, 600V, PDIP-8/SOIC-8
pins: 1 VCC, 2 PO, 3 COM, 4 ~{{OC}}, 5 NC, 6 VB, 7 VS, 8 VIN+

## IR2177S
designator *  value IR2177S  Reference: U
Phase Current Sensor IC for AC Motor Control, PWM and ADC output, 600V, SOIC-16W; ki_keywords: half bridge current sense; ki_fp_filters: SOIC*W*7.5x10.3mm*P1.27mm*; Footprint: Package_SO:SOIC-16W_7.5x10.3mm_P1.27mm; Datasheet: https://www.infineon.com/dgdl/ir2177s.pdf?fileId=5546d462533600a4015355c92e7416cb; Description_: Phase Current Sensor IC for AC Motor Control, PWM and ADC output, 600V, SOIC-16W
pins: 1 VCC, 2 OUT, 3 VSS, 4 VRL, 5 VRH, 6 OC, 7 PO, 8 SYNC, 9 NC, 10 NC, 11 G0, 12 G1, 13 VS, 14 VIN-, 15 VIN+, 16 VB

## IR2277S
designator *  value IR2277S  Reference: U
Phase Current Sensor IC for AC Motor Control, PWM and ADC output, 1200V, SOIC-16W; ki_keywords: half bridge current sense; ki_fp_filters: SOIC*W*7.5x10.3mm*P1.27mm*; Footprint: Package_SO:SOIC-16W_7.5x10.3mm_P1.27mm; Datasheet: https://www.infineon.com/dgdl/ir2177s.pdf?fileId=5546d462533600a4015355c92e7416cb; Description_: Phase Current Sensor IC for AC Motor Control, PWM and ADC output, 1200V, SOIC-16W
pins: 1 VCC, 2 OUT, 3 VSS, 4 VRL, 5 VRH, 6 OC, 7 PO, 8 SYNC, 9 NC, 10 NC, 11 G0, 12 G1, 13 VS, 14 VIN-, 15 VIN+, 16 VB

## IR21771S
designator *  value IR21771S  Reference: U
Phase Current Sensor IC for AC Motor Control, PWM output, 600V, SOIC-16W; ki_keywords: half bridge current sense; ki_fp_filters: SOIC*W*7.5x10.3mm*P1.27mm*; Footprint: Package_SO:SOIC-16W_7.5x10.3mm_P1.27mm; Datasheet: https://www.infineon.com/dgdl/ir21771s.pdf?fileId=5546d462533600a4015355c9222c16c8; Description_: Phase Current Sensor IC for AC Motor Control, PWM output, 600V, SOIC-16W
pins: 1 VCC, 2 NC, 3 VSS, 4 NC, 5 NC, 6 OC, 7 PO, 8 SYNC, 9 NC, 10 NC, 11 G0, 12 G1, 13 VS, 14 VIN-, 15 VIN+, 16 VB

## IR22771S
designator *  value IR22771S  Reference: U
Phase Current Sensor IC for AC Motor Control, PWM output, 1200V, SOIC-16W; ki_keywords: half bridge current sense; ki_fp_filters: SOIC*W*7.5x10.3mm*P1.27mm*; Footprint: Package_SO:SOIC-16W_7.5x10.3mm_P1.27mm; Datasheet: https://www.infineon.com/dgdl/ir21771s.pdf?fileId=5546d462533600a4015355c9222c16c8; Description_: Phase Current Sensor IC for AC Motor Control, PWM output, 1200V, SOIC-16W
pins: 1 VCC, 2 NC, 3 VSS, 4 NC, 5 NC, 6 OC, 7 PO, 8 SYNC, 9 NC, 10 NC, 11 G0, 12 G1, 13 VS, 14 VIN-, 15 VIN+, 16 VB

## IR25750L
designator *  value IR25750L  Reference: U
Current Sensing IC, 600V, SOT-23-5; ki_keywords: single current sense; ki_fp_filters: SOT?23*; Footprint: Package_TO_SOT_SMD:SOT-23-5; Datasheet: https://www.infineon.com/dgdl/ir25750lpbf.pdf?fileId=5546d462533600a4015355ca1d0e16f7; Description_: Current Sensing IC, 600V, SOT-23-5
pins: 1 CS, 2 NC, 3 GATE, 4 COM, 5 VS

## LA25-NP
designator *  value LA25-NP  Reference: U
Current Transducer, 25A, Tripolar, +/-15V; ki_keywords: Current Transducer LEM; ki_fp_filters: LEM*LA25*NP*; Footprint: Sensor_Current:LEM_LA25-NP; Datasheet: https://www.lem.com/sites/default/files/products_datasheets/la%2025-np.pdf; Description_: Current Transducer, 25A, Tripolar, +/-15V
pins: 1 IN, 2 IN, 3 IN, 4 IN, 5 IN, 6 OUT, 7 OUT, 8 OUT, 9 OUT, 10 OUT, 11 -, 12 +, 13 M

## LA25-P
designator *  value LA25-P  Reference: U
Current Transducer, 25A, Bipolar, ±15V; ki_fp_filters: LEM*LA25*P*; Footprint: Sensor_Current:LEM_LA25-P; Datasheet: https://www.lem.com/sites/default/files/products_datasheets/la_25-p.pdf; Description_: Current Transducer, 25A, Bipolar, ±15V; ki_keywords: current transducer
pins: 1 M, 2 -, 3 +

## LA55-P
designator *  value LA55-P  Reference: U
Current Transducer, 50A, Bipolar, ±15V; ki_fp_filters: LEM*LA25*P*; Footprint: Sensor_Current:LEM_LA25-P; Datasheet: https://www.lem.com/sites/default/files/products_datasheets/la_55-p_e.pdf; Description_: Current Transducer, 50A, Bipolar, ±15V; ki_keywords: current transducer
pins: 1 M, 2 -, 3 +

## LA100-P
designator *  value LA100-P  Reference: U
Current Transducer, 100A, Bipolar, ±15V; ki_fp_filters: LEM*LA25*P*; Footprint: Sensor_Current:LEM_LA25-P; Datasheet: https://www.lem.com/sites/default/files/products_datasheets/la_100-p_e_.pdf; Description_: Current Transducer, 100A, Bipolar, ±15V; ki_keywords: current transducer
pins: 1 M, 2 -, 3 +

## LTSR6-NP
designator *  value LTSR6-NP  Reference: U
Current Transducer, Unipolar, 6A, 5V supply, DC, AC, pulsed; ki_fp_filters: LEM*LTSR*NP*; Footprint: Sensor_Current:LEM_LTSR-NP; Datasheet: https://www.lem.com/sites/default/files/products_datasheets/ltsr_6-np.pdf; Description_: Current Transducer, Unipolar, 6A, 5V supply, DC, AC, pulsed; ki_keywords: current transducer
pins: 1 IN1, 2 IN2, 3 IN3, 4 OUT4, 5 OUT5, 6 OUT6, 7 Ref, 8 Out, 9 0V, 10 +5V

## LTSR15-NP
designator *  value LTSR15-NP  Reference: U
Current Transducer, Unipolar, 15A, 5V supply, DC, AC, pulsed; ki_fp_filters: LEM*LTSR*NP*; Footprint: Sensor_Current:LEM_LTSR-NP; Datasheet: https://www.lem.com/sites/default/files/products_datasheets/ltsr_15-np.pdf; Description_: Current Transducer, Unipolar, 15A, 5V supply, DC, AC, pulsed; ki_keywords: current transducer
pins: 1 IN1, 2 IN2, 3 IN3, 4 OUT4, 5 OUT5, 6 OUT6, 7 Ref, 8 Out, 9 0V, 10 +5V

## LTSR25-NP
designator *  value LTSR25-NP  Reference: U
Current Transducer, Unipolar, 25A, 5V supply, DC, AC, pulsed; ki_fp_filters: LEM*LTSR*NP*; Footprint: Sensor_Current:LEM_LTSR-NP; Datasheet: https://www.lem.com/sites/default/files/products_datasheets/ltsr_25-np.pdf; Description_: Current Transducer, Unipolar, 25A, 5V supply, DC, AC, pulsed; ki_keywords: current transducer
pins: 1 IN1, 2 IN2, 3 IN3, 4 OUT4, 5 OUT5, 6 OUT6, 7 Ref, 8 Out, 9 0V, 10 +5V

## MCA1101-5-3
designator *  value MCA1101-5-3  Reference: U
High Accuracy Current Sensor IC with 1.5MHz 3dB Bandwidth and Isolation, ±5A, 3.3V Supply, Fixed Gain, 230 mV/A, SOIC-16W; ki_keywords: amr-sensor isolated-current-sensor; ki_fp_filters: SOIC*7.5x10.3mm*P1.27mm*; Footprint: Package_SO:SOIC-16W_7.5x10.3mm_P1.27mm; Datasheet: https://navview.blob.core.windows.net/web-resources/6020-1104-01_C%20Datasheet%2C%20Current%20Sensor%20Fix%20Gain%203.3V_20210408.pdf; Description_: High Accuracy Current Sensor IC with 1.5MHz 3dB Bandwidth and Isolation, ±5A, 3.3V Supply, Fixed Gain, 230 mV/A, SOIC-16W
pins: 1 IP+, 2 IP+, 3 IP+, 4 IP+, 5 IP-, 6 IP-, 7 IP-, 8 IP-, 9 ~{{FAULTB}}, 10 VCC, 11 GND, 12 Vout, 13 Vref, 14 GND, 15 GND, 16 VOC

## MCA1101-5-5
designator *  value MCA1101-5-5  Reference: U
High Accuracy Current Sensor IC with 1.5MHz 3dB Bandwidth and Isolation, ±5A, 5V Supply, Fixed Gain, 350 mV/A, SOIC-16W; ki_keywords: amr-sensor isolated-current-sensor; ki_fp_filters: SOIC*7.5x10.3mm*P1.27mm*; Footprint: Package_SO:SOIC-16W_7.5x10.3mm_P1.27mm; Datasheet: https://navview.blob.core.windows.net/web-resources/6020-1102-01%20RevG_MCA1101_Fix%20Gain%205V_10112021.pdf; Description_: High Accuracy Current Sensor IC with 1.5MHz 3dB Bandwidth and Isolation, ±5A, 5V Supply, Fixed Gain, 350 mV/A, SOIC-16W
pins: 1 IP+, 2 IP+, 3 IP+, 4 IP+, 5 IP-, 6 IP-, 7 IP-, 8 IP-, 9 ~{{FAULTB}}, 10 VCC, 11 GND, 12 Vout, 13 Vref, 14 GND, 15 GND, 16 VOC

## MCA1101-20-3
designator *  value MCA1101-20-3  Reference: U
High Accuracy Current Sensor IC with 1.5MHz 3dB Bandwidth and Isolation, ±20A, 3.3V Supply, Fixed Gain, 60 mV/A, SOIC-16W; ki_keywords: amr-sensor isolated-current-sensor; ki_fp_filters: SOIC*7.5x10.3mm*P1.27mm*; Footprint: Package_SO:SOIC-16W_7.5x10.3mm_P1.27mm; Datasheet: https://navview.blob.core.windows.net/web-resources/6020-1104-01_C%20Datasheet%2C%20Current%20Sensor%20Fix%20Gain%203.3V_20210408.pdf; Description_: High Accuracy Current Sensor IC with 1.5MHz 3dB Bandwidth and Isolation, ±20A, 3.3V Supply, Fixed Gain, 60 mV/A, SOIC-16W
pins: 1 IP+, 2 IP+, 3 IP+, 4 IP+, 5 IP-, 6 IP-, 7 IP-, 8 IP-, 9 ~{{FAULTB}}, 10 VCC, 11 GND, 12 Vout, 13 Vref, 14 GND, 15 GND, 16 VOC

## MCA1101-20-5
designator *  value MCA1101-20-5  Reference: U
High Accuracy Current Sensor IC with 1.5MHz 3dB Bandwidth and Isolation, ±20A, 5V Supply, Fixed Gain, 90 mV/A, SOIC-16W; ki_keywords: amr-sensor isolated-current-sensor; ki_fp_filters: SOIC*7.5x10.3mm*P1.27mm*; Footprint: Package_SO:SOIC-16W_7.5x10.3mm_P1.27mm; Datasheet: https://navview.blob.core.windows.net/web-resources/6020-1102-01%20RevG_MCA1101_Fix%20Gain%205V_10112021.pdf; Description_: High Accuracy Current Sensor IC with 1.5MHz 3dB Bandwidth and Isolation, ±20A, 5V Supply, Fixed Gain, 90 mV/A, SOIC-16W
pins: 1 IP+, 2 IP+, 3 IP+, 4 IP+, 5 IP-, 6 IP-, 7 IP-, 8 IP-, 9 ~{{FAULTB}}, 10 VCC, 11 GND, 12 Vout, 13 Vref, 14 GND, 15 GND, 16 VOC

## MCA1101-50-3
designator *  value MCA1101-50-3  Reference: U
High Accuracy Current Sensor IC with 1.5MHz 3dB Bandwidth and Isolation, ±50A, 3.3V Supply, Fixed Gain, 25 mV/A, SOIC-16W; ki_keywords: amr-sensor isolated-current-sensor; ki_fp_filters: SOIC*7.5x10.3mm*P1.27mm*; Footprint: Package_SO:SOIC-16W_7.5x10.3mm_P1.27mm; Datasheet: https://navview.blob.core.windows.net/web-resources/6020-1104-01_C%20Datasheet%2C%20Current%20Sensor%20Fix%20Gain%203.3V_20210408.pdf; Description_: High Accuracy Current Sensor IC with 1.5MHz 3dB Bandwidth and Isolation, ±50A, 3.3V Supply, Fixed Gain, 25 mV/A, SOIC-16W
pins: 1 IP+, 2 IP+, 3 IP+, 4 IP+, 5 IP-, 6 IP-, 7 IP-, 8 IP-, 9 ~{{FAULTB}}, 10 VCC, 11 GND, 12 Vout, 13 Vref, 14 GND, 15 GND, 16 VOC

## MCA1101-50-5
designator *  value MCA1101-50-5  Reference: U
High Accuracy Current Sensor IC with 1.5MHz 3dB Bandwidth and Isolation, ±50A, 5V Supply, Fixed Gain, 35 mV/A, SOIC-16W; ki_keywords: amr-sensor isolated-current-sensor; ki_fp_filters: SOIC*7.5x10.3mm*P1.27mm*; Footprint: Package_SO:SOIC-16W_7.5x10.3mm_P1.27mm; Datasheet: https://navview.blob.core.windows.net/web-resources/6020-1102-01%20RevG_MCA1101_Fix%20Gain%205V_10112021.pdf; Description_: High Accuracy Current Sensor IC with 1.5MHz 3dB Bandwidth and Isolation, ±50A, 5V Supply, Fixed Gain, 35 mV/A, SOIC-16W
pins: 1 IP+, 2 IP+, 3 IP+, 4 IP+, 5 IP-, 6 IP-, 7 IP-, 8 IP-, 9 ~{{FAULTB}}, 10 VCC, 11 GND, 12 Vout, 13 Vref, 14 GND, 15 GND, 16 VOC

## MCA1101-65-5
designator *  value MCA1101-65-5  Reference: U
High Accuracy Current Sensor IC with 1.5MHz 3dB Bandwidth and Isolation, ±65A, 5V Supply, Fixed Gain, 27 mV/A, SOIC-16W; ki_keywords: amr-sensor isolated-current-sensor; ki_fp_filters: SOIC*7.5x10.3mm*P1.27mm*; Footprint: Package_SO:SOIC-16W_7.5x10.3mm_P1.27mm; Datasheet: https://navview.blob.core.windows.net/web-resources/6020-1102-01%20RevG_MCA1101_Fix%20Gain%205V_10112021.pdf; Description_: High Accuracy Current Sensor IC with 1.5MHz 3dB Bandwidth and Isolation, ±65A, 5V Supply, Fixed Gain, 27 mV/A, SOIC-16W
pins: 1 IP+, 2 IP+, 3 IP+, 4 IP+, 5 IP-, 6 IP-, 7 IP-, 8 IP-, 9 ~{{FAULTB}}, 10 VCC, 11 GND, 12 Vout, 13 Vref, 14 GND, 15 GND, 16 VOC